# EAGLE library part AT45DB (library AP3410)
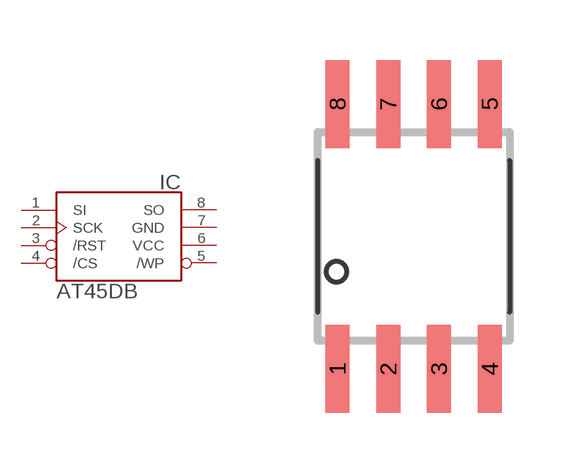
[diagram p79: symbol with the pads of SOIC8_208MIL; footprint SOIC8_208MIL]

Designator prefix IC

## AT45DB-S  [SOIC8_208MIL]
1  SI  in
2  SCK  in
3  /RST  in
4  /CS  in
5  /WP  in
6  VCC  pwr
7  GND  pwr
8  SO  out

## Footprint SOIC8_208MIL (pad centres in mm)
Small Outline IC - 208mil Wide
smd 0.6 x 2.2: 1 -1.905,-3.315; 2 -0.635,-3.315; 3 0.635,-3.315; 4 1.905,-3.315; 5 1.905,3.315; 6 0.635,3.315; 7 -0.635,3.315; 8 -1.905,3.315